# Altium schematic symbol library BTS711L1.SchLib: 1 symbol
Pins are listed as number, name and electrical type; pins without a type are passive.

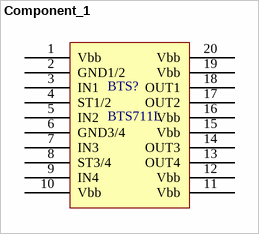
[diagram p0: symbol Component_1]

## Component_1
designator BTS?, comment BTS711L
pins: 1 Vbb, 2 GND1/2, 3 IN1, 4 ST1/2, 5 IN2, 6 GND3/4, 7 IN3, 8 ST3/4, 9 IN4, 10 Vbb, 11 Vbb, 12 Vbb, 13 OUT4, 14 OUT3, 15 Vbb, 16 Vbb, 17 OUT2, 18 OUT1, 19 Vbb, 20 Vbb